# Altium footprint library WE-PoE++.PcbLib: 23 footprints (part 1 of 2)
Each footprint in its own frame and in the unit in brackets; x right, y up, seen from the top. Pads: shape width x height; smd on the part's side, far side on the other; paste and mask are expansions set on the pad; w line width, h text height; cw(c..) or ccw(c..) is an arc to the next point about the centre after c.
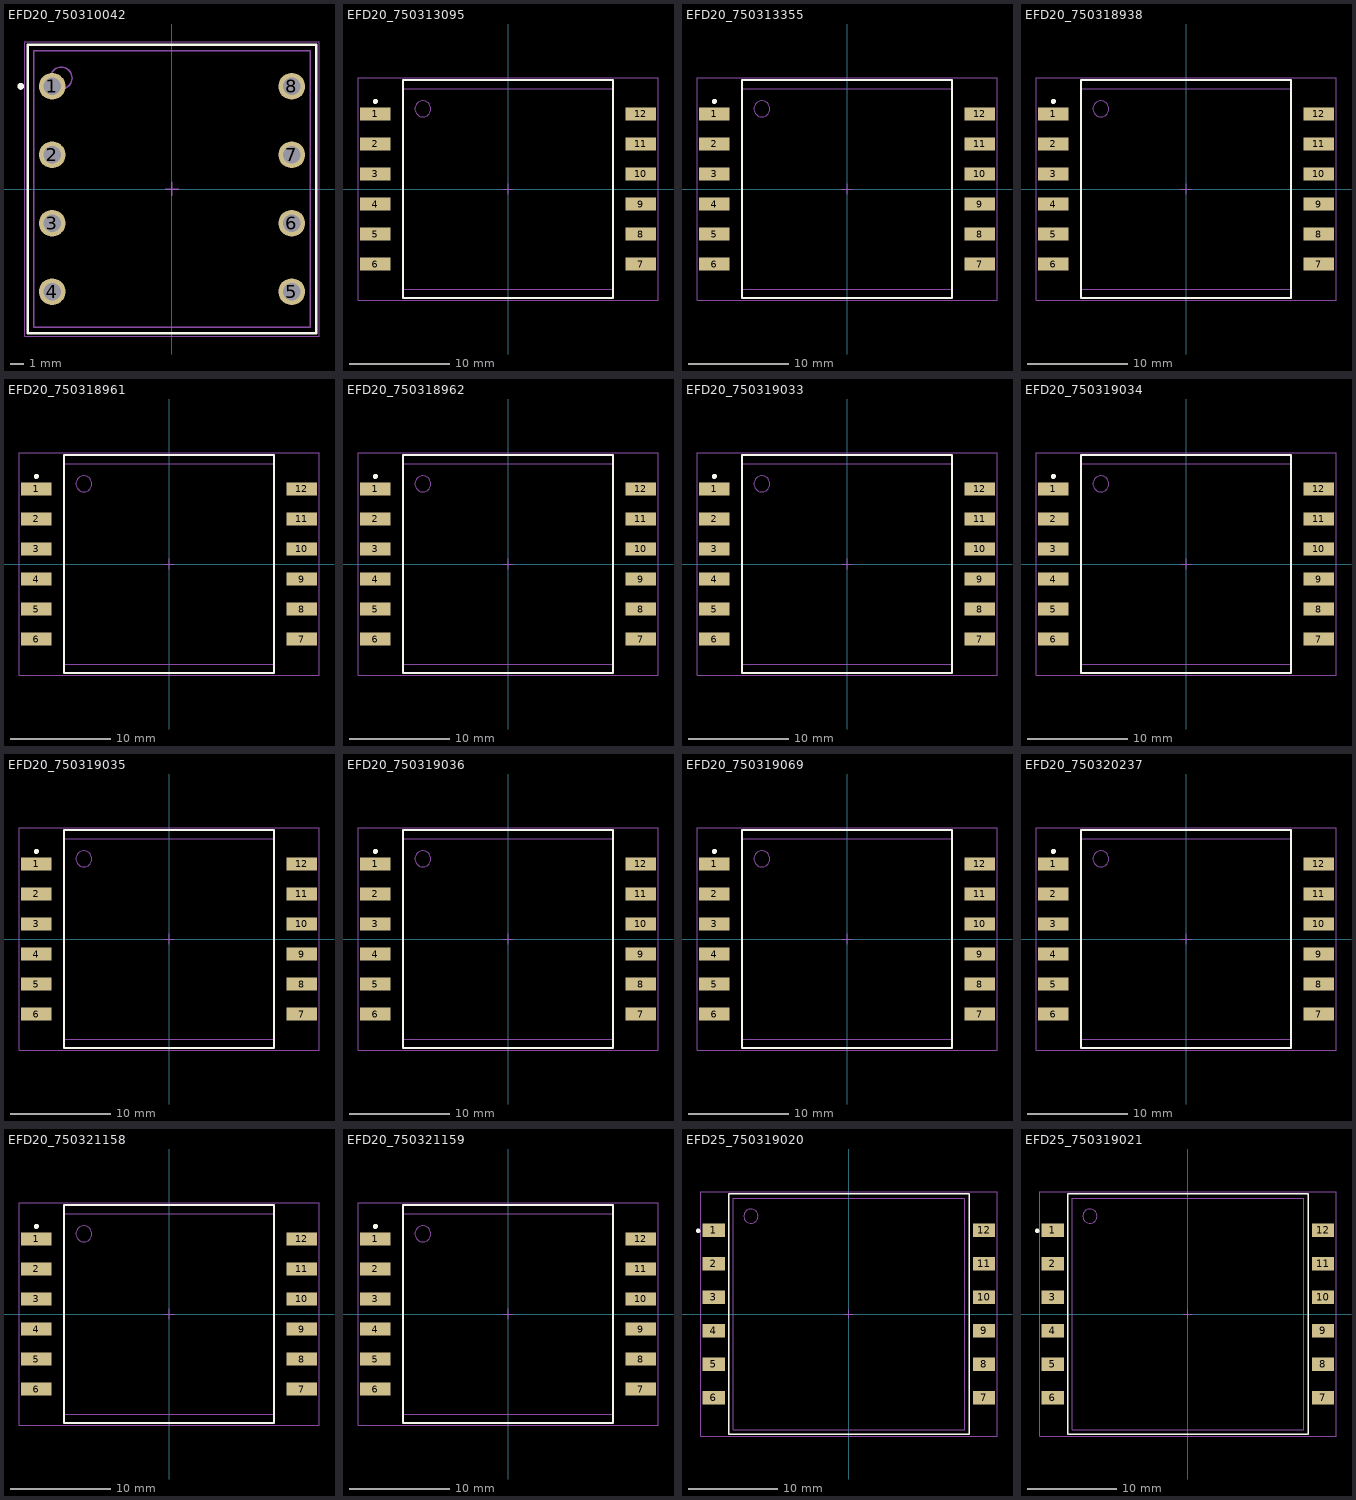
[diagram p0: the footprints below, top view; thin cyan lines are the x and y axes]

## EFD20_750310042 [mm] "Transformer, THT, body 21.08 x 21.08 mm"
height 10.8
pads (8):
  round 1.95 hole 1.3: 1(-8.75,7.5) 2(-8.75,2.5) 3(-8.75,-2.5) 4(-8.75,-7.5) 5(8.75,-7.5) 6(8.75,-2.5) 7(8.75,2.5) 8(8.75,7.5)
Top Overlay:
  circle w0.25: c-11.05,7.5 r0.125
  lines w0.2: -10.54,-10.54 10.54,-10.54 10.54,10.54 -10.54,10.54 -10.54,-10.54
Top Assembly:
  circle w0.1: c-8.1,8.1 r0.8
  lines w0.1: -10.1,-10.1 -10.1,10.1 10.1,10.1 10.1,-10.1 -10.1,-10.1
Top Designator:
  text ".Designator" at -3.647,-0.357 h1
Top 3D Body:
  circle w0.1: c-8.1,8.1 r0.8
  lines w0.1: -10.1,-10.1 -10.1,10.1 10.1,10.1 10.1,-10.1 -10.1,-10.1
Top Courtyard:
  lines w0.05: -10.74,-10.74 -10.74,10.74 10.74,10.74 10.74,-10.74 -10.74,-10.74
Top Component Center:
  lines w0.1: -0.5,0 0.5,0 ; 0,-0.5 0,0.5
3D body "Download_STP_070-2609 (rev1).STEP": height 10.45, standoff -3.36, extent -10.1,-10.1 10.1,10.1

## EFD20_750313095 [mm] "Transformer, SMT, body 29.65 x 21.80 mm"
height 11.43
pads (12):
  rect 3.05x1.27 smd: 1(-13.26,7.5) 2(-13.26,4.5) 3(-13.26,1.5) 4(-13.26,-1.5) 5(-13.26,-4.5) 6(-13.26,-7.5) 7(13.26,-7.5) 8(13.26,-4.5) 9(13.26,-1.5) 10(13.26,1.5) 11(13.26,4.5) 12(13.26,7.5)
Top Overlay:
  circle w0.25: c-13.25,8.75 r0.125
  lines w0.2: -10.5,-10.9 10.5,-10.9 10.5,10.9 -10.5,10.9 -10.5,-10.9
Top Assembly:
  circle w0.1: c-8.5,8 r0.8
  lines w0.1: -10.5,-10 10.5,-10 10.5,10 -10.5,10 -10.5,-10
Top Designator:
  text ".Designator" at -3.647,-0.357 h1
Top 3D Body:
  circle w0.1: c-8.5,8 r0.8
  lines w0.1: -10.5,-10 10.5,-10 10.5,10 -10.5,10 -10.5,-10
Top Courtyard:
  lines w0.05: -14.985,-11.1 14.985,-11.1 14.985,11.1 -14.985,11.1 -14.985,-11.1
Top Component Center:
  lines w0.1: -0.5,0 0.5,0 ; 0,-0.5 0,0.5
3D body "Download_STP_070-5899 (rev1) (1).STEP": height 10.67, standoff 0, extent -14.325,-10 14.325,10

## EFD20_750313355 [mm] "Transformer, SMT, body 29.65 x 21.80 mm"
height 11.43
pads (12):
  rect 3.05x1.27 smd: 1(-13.26,7.5) 2(-13.26,4.5) 3(-13.26,1.5) 4(-13.26,-1.5) 5(-13.26,-4.5) 6(-13.26,-7.5) 7(13.26,-7.5) 8(13.26,-4.5) 9(13.26,-1.5) 10(13.26,1.5) 11(13.26,4.5) 12(13.26,7.5)
Top Overlay:
  circle w0.25: c-13.25,8.75 r0.125
  lines w0.2: -10.5,-10.9 -10.5,10.9 10.5,10.9 10.5,-10.9 -10.5,-10.9
Top Assembly:
  circle w0.1: c-8.5,8 r0.8
  lines w0.1: -10.5,-10 -10.5,10 10.5,10 10.5,-10 -10.5,-10
Top Designator:
  text ".Designator" at -3.647,-0.357 h1
Top 3D Body:
  circle w0.1: c-8.5,8 r0.8
  lines w0.1: -10.5,-10 -10.5,10 10.5,10 10.5,-10 -10.5,-10
Top Courtyard:
  lines w0.05: -14.985,-11.1 -14.985,11.1 14.985,11.1 14.985,-11.1 -14.985,-11.1
Top Component Center:
  lines w0.1: -0.5,0 0.5,0 ; 0,-0.5 0,0.5
3D body "Download_STP_070-5899 (rev1) (1).STEP": height 10.67, standoff 0, extent -14.325,-10 14.325,10

## EFD20_750318938 [mm] "Transformer, SMT, body 29.65 x 21.80 mm"
height 11.43
pads (12):
  rect 3.05x1.27 smd: 1(-13.26,7.5) 2(-13.26,4.5) 3(-13.26,1.5) 4(-13.26,-1.5) 5(-13.26,-4.5) 6(-13.26,-7.5) 7(13.26,-7.5) 8(13.26,-4.5) 9(13.26,-1.5) 10(13.26,1.5) 11(13.26,4.5) 12(13.26,7.5)
Top Overlay:
  circle w0.25: c-13.25,8.75 r0.125
  lines w0.2: -10.5,-10.9 -10.5,10.9 10.5,10.9 10.5,-10.9 -10.5,-10.9
Top Assembly:
  circle w0.1: c-8.5,8 r0.8
  lines w0.1: -10.5,-10 -10.5,10 10.5,10 10.5,-10 -10.5,-10
Top Designator:
  text ".Designator" at -3.647,-0.357 h1
Top 3D Body:
  circle w0.1: c-8.5,8 r0.8
  lines w0.1: -10.5,-10 -10.5,10 10.5,10 10.5,-10 -10.5,-10
Top Courtyard:
  lines w0.05: -14.985,-11.1 -14.985,11.1 14.985,11.1 14.985,-11.1 -14.985,-11.1
Top Component Center:
  lines w0.1: -0.5,0 0.5,0 ; 0,-0.5 0,0.5
3D body "Download_STP_070-5899 (rev1) (1).STEP": height 10.67, standoff 0, extent -14.325,-10 14.325,10

## EFD20_750318961 [mm] "Transformer, SMT, body 29.65 x 21.80 mm"
height 11.43
pads (12):
  rect 3.05x1.27 smd: 1(-13.26,7.5) 2(-13.26,4.5) 3(-13.26,1.5) 4(-13.26,-1.5) 5(-13.26,-4.5) 6(-13.26,-7.5) 7(13.26,-7.5) 8(13.26,-4.5) 9(13.26,-1.5) 10(13.26,1.5) 11(13.26,4.5) 12(13.26,7.5)
Top Overlay:
  circle w0.25: c-13.25,8.75 r0.125
  lines w0.2: -10.5,-10.9 -10.5,10.9 10.5,10.9 10.5,-10.9 -10.5,-10.9
Top Assembly:
  circle w0.1: c-8.5,8 r0.8
  lines w0.1: -10.5,-10 -10.5,10 10.5,10 10.5,-10 -10.5,-10
Top Designator:
  text ".Designator" at -3.647,-0.357 h1
Top 3D Body:
  circle w0.1: c-8.5,8 r0.8
  lines w0.1: -10.5,-10 -10.5,10 10.5,10 10.5,-10 -10.5,-10
Top Courtyard:
  lines w0.05: -14.985,-11.1 -14.985,11.1 14.985,11.1 14.985,-11.1 -14.985,-11.1
Top Component Center:
  lines w0.1: -0.5,0 0.5,0 ; 0,-0.5 0,0.5
3D body "Download_STP_070-5899 (rev1) (1).STEP": height 10.67, standoff 0, extent -14.325,-10 14.325,10

## EFD20_750318962 [mm] "Transformer, SMT, body 29.65 x 21.80 mm"
height 11.43
pads (12):
  rect 3.05x1.27 smd: 1(-13.26,7.5) 2(-13.26,4.5) 3(-13.26,1.5) 4(-13.26,-1.5) 5(-13.26,-4.5) 6(-13.26,-7.5) 7(13.26,-7.5) 8(13.26,-4.5) 9(13.26,-1.5) 10(13.26,1.5) 11(13.26,4.5) 12(13.26,7.5)
Top Overlay:
  circle w0.25: c-13.25,8.75 r0.125
  lines w0.2: -10.5,-10.9 -10.5,10.9 10.5,10.9 10.5,-10.9 -10.5,-10.9
Top Assembly:
  circle w0.1: c-8.5,8 r0.8
  lines w0.1: -10.5,-10 -10.5,10 10.5,10 10.5,-10 -10.5,-10
Top Designator:
  text ".Designator" at -3.647,-0.357 h1
Top 3D Body:
  circle w0.1: c-8.5,8 r0.8
  lines w0.1: -10.5,-10 -10.5,10 10.5,10 10.5,-10 -10.5,-10
Top Courtyard:
  lines w0.05: -14.985,-11.1 -14.985,11.1 14.985,11.1 14.985,-11.1 -14.985,-11.1
Top Component Center:
  lines w0.1: -0.5,0 0.5,0 ; 0,-0.5 0,0.5
3D body "Download_STP_070-5899 (rev1) (1).STEP": height 10.67, standoff 0, extent -14.325,-10 14.325,10

## EFD20_750319033 [mm] "Transformer, SMT, body 29.65 x 21.80 mm"
height 11.43
pads (12):
  rect 3.05x1.27 smd: 1(-13.26,7.5) 2(-13.26,4.5) 3(-13.26,1.5) 4(-13.26,-1.5) 5(-13.26,-4.5) 6(-13.26,-7.5) 7(13.26,-7.5) 8(13.26,-4.5) 9(13.26,-1.5) 10(13.26,1.5) 11(13.26,4.5) 12(13.26,7.5)
Top Overlay:
  circle w0.25: c-13.25,8.75 r0.125
  lines w0.2: -10.5,-10.9 -10.5,10.9 10.5,10.9 10.5,-10.9 -10.5,-10.9
Top Assembly:
  circle w0.1: c-8.5,8 r0.8
  lines w0.1: -10.5,-10 -10.5,10 10.5,10 10.5,-10 -10.5,-10
Top Designator:
  text ".Designator" at -3.647,-0.357 h1
Top 3D Body:
  circle w0.1: c-8.5,8 r0.8
  lines w0.1: -10.5,-10 -10.5,10 10.5,10 10.5,-10 -10.5,-10
Top Courtyard:
  lines w0.05: -14.985,-11.1 -14.985,11.1 14.985,11.1 14.985,-11.1 -14.985,-11.1
Top Component Center:
  lines w0.1: -0.5,0 0.5,0 ; 0,-0.5 0,0.5
3D body "Download_STP_070-5899 (rev1) (1).STEP": height 10.67, standoff 0, extent -14.325,-10 14.325,10

## EFD20_750319034 [mm] "Transformer, SMT, body 29.65 x 21.80 mm"
height 11.43
pads (12):
  rect 3.05x1.27 smd: 1(-13.26,7.5) 2(-13.26,4.5) 3(-13.26,1.5) 4(-13.26,-1.5) 5(-13.26,-4.5) 6(-13.26,-7.5) 7(13.26,-7.5) 8(13.26,-4.5) 9(13.26,-1.5) 10(13.26,1.5) 11(13.26,4.5) 12(13.26,7.5)
Top Overlay:
  circle w0.25: c-13.25,8.75 r0.125
  lines w0.2: -10.5,-10.9 -10.5,10.9 10.5,10.9 10.5,-10.9 -10.5,-10.9
Top Assembly:
  circle w0.1: c-8.5,8 r0.8
  lines w0.1: -10.5,-10 -10.5,10 10.5,10 10.5,-10 -10.5,-10
Top Designator:
  text ".Designator" at -3.647,-0.357 h1
Top 3D Body:
  circle w0.1: c-8.5,8 r0.8
  lines w0.1: -10.5,-10 -10.5,10 10.5,10 10.5,-10 -10.5,-10
Top Courtyard:
  lines w0.05: -14.985,-11.1 -14.985,11.1 14.985,11.1 14.985,-11.1 -14.985,-11.1
Top Component Center:
  lines w0.1: -0.5,0 0.5,0 ; 0,-0.5 0,0.5
3D body "Download_STP_070-5899 (rev1) (1).STEP": height 10.67, standoff 0, extent -14.325,-10 14.325,10

## EFD20_750319035 [mm] "Transformer, SMT, body 29.65 x 21.80 mm"
height 11.43
pads (12):
  rect 3.05x1.27 smd: 1(-13.26,7.5) 2(-13.26,4.5) 3(-13.26,1.5) 4(-13.26,-1.5) 5(-13.26,-4.5) 6(-13.26,-7.5) 7(13.26,-7.5) 8(13.26,-4.5) 9(13.26,-1.5) 10(13.26,1.5) 11(13.26,4.5) 12(13.26,7.5)
Top Overlay:
  circle w0.25: c-13.25,8.75 r0.125
  lines w0.2: -10.5,-10.9 10.5,-10.9 10.5,10.9 -10.5,10.9 -10.5,-10.9
Top Assembly:
  circle w0.1: c-8.5,8 r0.8
  lines w0.1: -10.5,-10 10.5,-10 10.5,10 -10.5,10 -10.5,-10
Top Designator:
  text ".Designator" at -3.647,-0.357 h1
Top 3D Body:
  circle w0.1: c-8.5,8 r0.8
  lines w0.1: -10.5,-10 10.5,-10 10.5,10 -10.5,10 -10.5,-10
Top Courtyard:
  lines w0.05: -14.985,-11.1 14.985,-11.1 14.985,11.1 -14.985,11.1 -14.985,-11.1
Top Component Center:
  lines w0.1: -0.5,0 0.5,0 ; 0,-0.5 0,0.5
3D body "Download_STP_070-5899 (rev1) (1).STEP": height 10.67, standoff 0, extent -14.325,-10 14.325,10

## EFD20_750319036 [mm] "Transformer, SMT, body 29.65 x 21.80 mm"
height 11.43
pads (12):
  rect 3.05x1.27 smd: 1(-13.26,7.5) 2(-13.26,4.5) 3(-13.26,1.5) 4(-13.26,-1.5) 5(-13.26,-4.5) 6(-13.26,-7.5) 7(13.26,-7.5) 8(13.26,-4.5) 9(13.26,-1.5) 10(13.26,1.5) 11(13.26,4.5) 12(13.26,7.5)
Top Overlay:
  circle w0.25: c-13.25,8.75 r0.125
  lines w0.2: -10.5,-10.9 10.5,-10.9 10.5,10.9 -10.5,10.9 -10.5,-10.9
Top Assembly:
  circle w0.1: c-8.5,8 r0.8
  lines w0.1: -10.5,-10 10.5,-10 10.5,10 -10.5,10 -10.5,-10
Top Designator:
  text ".Designator" at -3.647,-0.357 h1
Top 3D Body:
  circle w0.1: c-8.5,8 r0.8
  lines w0.1: -10.5,-10 10.5,-10 10.5,10 -10.5,10 -10.5,-10
Top Courtyard:
  lines w0.05: -14.985,-11.1 14.985,-11.1 14.985,11.1 -14.985,11.1 -14.985,-11.1
Top Component Center:
  lines w0.1: -0.5,0 0.5,0 ; 0,-0.5 0,0.5
3D body "Download_STP_070-5899 (rev1) (1).STEP": height 10.67, standoff 0, extent -14.325,-10 14.325,10

## EFD20_750319069 [mm] "Transformer, SMT, body 29.65 x 21.80 mm"
height 11.43
pads (12):
  rect 3.05x1.27 smd: 1(-13.26,7.5) 2(-13.26,4.5) 3(-13.26,1.5) 4(-13.26,-1.5) 5(-13.26,-4.5) 6(-13.26,-7.5) 7(13.26,-7.5) 8(13.26,-4.5) 9(13.26,-1.5) 10(13.26,1.5) 11(13.26,4.5) 12(13.26,7.5)
Top Overlay:
  circle w0.25: c-13.25,8.75 r0.125
  lines w0.2: -10.5,-10.9 -10.5,10.9 10.5,10.9 10.5,-10.9 -10.5,-10.9
Top Assembly:
  circle w0.1: c-8.5,8 r0.8
  lines w0.1: -10.5,-10 -10.5,10 10.5,10 10.5,-10 -10.5,-10
Top Designator:
  text ".Designator" at -3.647,-0.357 h1
Top 3D Body:
  circle w0.1: c-8.5,8 r0.8
  lines w0.1: -10.5,-10 -10.5,10 10.5,10 10.5,-10 -10.5,-10
Top Courtyard:
  lines w0.05: -14.985,-11.1 -14.985,11.1 14.985,11.1 14.985,-11.1 -14.985,-11.1
Top Component Center:
  lines w0.1: -0.5,0 0.5,0 ; 0,-0.5 0,0.5
3D body "Download_STP_070-5899 (rev1) (1).STEP": height 10.67, standoff 0, extent -14.325,-10 14.325,10

## EFD20_750320237 [mm] "Transformer, SMT, body 29.65 x 21.80 mm"
height 11.43
pads (12):
  rect 3.05x1.27 smd: 1(-13.26,7.5) 2(-13.26,4.5) 3(-13.26,1.5) 4(-13.26,-1.5) 5(-13.26,-4.5) 6(-13.26,-7.5) 7(13.26,-7.5) 8(13.26,-4.5) 9(13.26,-1.5) 10(13.26,1.5) 11(13.26,4.5) 12(13.26,7.5)
Top Overlay:
  circle w0.25: c-13.25,8.75 r0.125
  lines w0.2: -10.5,-10.9 -10.5,10.9 10.5,10.9 10.5,-10.9 -10.5,-10.9
Top Assembly:
  circle w0.1: c-8.5,8 r0.8
  lines w0.1: -10.5,-10 -10.5,10 10.5,10 10.5,-10 -10.5,-10
Top Designator:
  text ".Designator" at -3.647,-0.357 h1
Top 3D Body:
  circle w0.1: c-8.5,8 r0.8
  lines w0.1: -10.5,-10 -10.5,10 10.5,10 10.5,-10 -10.5,-10
Top Courtyard:
  lines w0.05: -14.985,-11.1 -14.985,11.1 14.985,11.1 14.985,-11.1 -14.985,-11.1
Top Component Center:
  lines w0.1: -0.5,0 0.5,0 ; 0,-0.5 0,0.5
3D body "Download_STP_070-5899 (rev1) (1).STEP": height 10.67, standoff 0, extent -14.325,-10 14.325,10

## EFD20_750321158 [mm] "Transformer, SMT, body 29.65 x 21.80 mm"
height 11.43
pads (12):
  rect 3.05x1.27 smd: 1(-13.26,7.5) 2(-13.26,4.5) 3(-13.26,1.5) 4(-13.26,-1.5) 5(-13.26,-4.5) 6(-13.26,-7.5) 7(13.26,-7.5) 8(13.26,-4.5) 9(13.26,-1.5) 10(13.26,1.5) 11(13.26,4.5) 12(13.26,7.5)
Top Overlay:
  circle w0.25: c-13.25,8.75 r0.125
  lines w0.2: -10.5,-10.9 -10.5,10.9 10.5,10.9 10.5,-10.9 -10.5,-10.9
Top Assembly:
  circle w0.1: c-8.5,8 r0.8
  lines w0.1: -10.5,-10 -10.5,10 10.5,10 10.5,-10 -10.5,-10
Top Designator:
  text ".Designator" at -3.647,-0.357 h1
Top 3D Body:
  circle w0.1: c-8.5,8 r0.8
  lines w0.1: -10.5,-10 -10.5,10 10.5,10 10.5,-10 -10.5,-10
Top Courtyard:
  lines w0.05: -14.985,-11.1 -14.985,11.1 14.985,11.1 14.985,-11.1 -14.985,-11.1
Top Component Center:
  lines w0.1: -0.5,0 0.5,0 ; 0,-0.5 0,0.5
3D body "Download_STP_070-5899 (rev1) (1).STEP": height 10.67, standoff 0, extent -14.325,-10 14.325,10

## EFD20_750321159 [mm] "Transformer, SMT, body 29.65 x 21.80 mm"
height 11.43
pads (12):
  rect 3.05x1.27 smd: 1(-13.26,7.5) 2(-13.26,4.5) 3(-13.26,1.5) 4(-13.26,-1.5) 5(-13.26,-4.5) 6(-13.26,-7.5) 7(13.26,-7.5) 8(13.26,-4.5) 9(13.26,-1.5) 10(13.26,1.5) 11(13.26,4.5) 12(13.26,7.5)
Top Overlay:
  circle w0.25: c-13.25,8.75 r0.125
  lines w0.2: -10.5,-10.9 10.5,-10.9 10.5,10.9 -10.5,10.9 -10.5,-10.9
Top Assembly:
  circle w0.1: c-8.5,8 r0.8
  lines w0.1: -10.5,-10 10.5,-10 10.5,10 -10.5,10 -10.5,-10
Top Designator:
  text ".Designator" at -3.647,-0.357 h1
Top 3D Body:
  circle w0.1: c-8.5,8 r0.8
  lines w0.1: -10.5,-10 10.5,-10 10.5,10 -10.5,10 -10.5,-10
Top Courtyard:
  lines w0.05: -14.985,-11.1 14.985,-11.1 14.985,11.1 -14.985,11.1 -14.985,-11.1
Top Component Center:
  lines w0.1: -0.5,0 0.5,0 ; 0,-0.5 0,0.5
3D body "Download_STP_070-5899 (rev1) (1).STEP": height 10.67, standoff 0, extent -14.325,-10 14.325,10

## EFD25_750319020 [mm] "Transformer, SMT, body 32.45 x 27.03 mm"
height 13.97
pads (12):
  rect 2.5x1.52 smd: 1(-15.19,9.4) 2(-15.19,5.64) 3(-15.19,1.88) 4(-15.19,-1.88) 5(-15.19,-5.64) 6(-15.19,-9.4) 7(15.19,-9.4) 8(15.19,-5.64) 9(15.19,-1.88) 10(15.19,1.88) 11(15.19,5.64) 12(15.19,9.4)
Top Overlay:
  circle w0.25: c-16.95,9.35 r0.125
  lines w0.2: -13.515,-13.515 13.515,-13.515 13.515,13.515 -13.515,13.515 -13.515,-13.515
Top Assembly:
  circle w0.1: c-11.01,11 r0.8
  lines w0.1: -13.01,-13 13.01,-13 13.01,13 -13.01,13 -13.01,-13
Top Designator:
  text ".Designator" at -3.647,-0.357 h1
Top 3D Body:
  circle w0.1: c-11.01,11 r0.8
  lines w0.1: -13.01,-13 13.01,-13 13.01,13 -13.01,13 -13.01,-13
Top Courtyard:
  lines w0.05: -16.64,-13.715 -16.64,13.715 16.64,13.715 16.64,-13.715 -16.64,-13.715
Top Component Center:
  lines w0.1: -0.5,0 0.5,0 ; 0,-0.5 0,0.5
3D body "070-4476 (rev1).STEP": height 13.28, standoff 0, extent -16.155,-13 16.155,13

## EFD25_750319021 [mm] "Transformer, SMT, body 32.45 x 27.03 mm"
height 13.97
pads (12):
  rect 2.5x1.52 smd: 1(-15.19,9.4) 2(-15.19,5.64) 3(-15.19,1.88) 4(-15.19,-1.88) 5(-15.19,-5.64) 6(-15.19,-9.4) 7(15.19,-9.4) 8(15.19,-5.64) 9(15.19,-1.88) 10(15.19,1.88) 11(15.19,5.64) 12(15.19,9.4)
Top Overlay:
  circle w0.25: c-16.95,9.35 r0.125
  lines w0.2: -13.515,-13.515 -13.515,13.515 13.515,13.515 13.515,-13.515 -13.515,-13.515
Top Assembly:
  circle w0.1: c-11.01,11 r0.8
  lines w0.1: -13.01,-13 -13.01,13 13.01,13 13.01,-13 -13.01,-13
Top Designator:
  text ".Designator" at -3.647,-0.357 h1
Top 3D Body:
  circle w0.1: c-11.01,11 r0.8
  lines w0.1: -13.01,-13 -13.01,13 13.01,13 13.01,-13 -13.01,-13
Top Courtyard:
  lines w0.05: -16.64,-13.715 16.64,-13.715 16.64,13.715 -16.64,13.715 -16.64,-13.715
Top Component Center:
  lines w0.1: -0.5,0 0.5,0 ; 0,-0.5 0,0.5
3D body "070-4476 (rev1).STEP": height 13.28, standoff 0, extent -16.155,-13 16.155,13